# EAGLE library part MICROBUILDER_APA102 (library cube)
APA102/DotStar Pixels VCC: 5V DC Refresh Rate: 400Hz
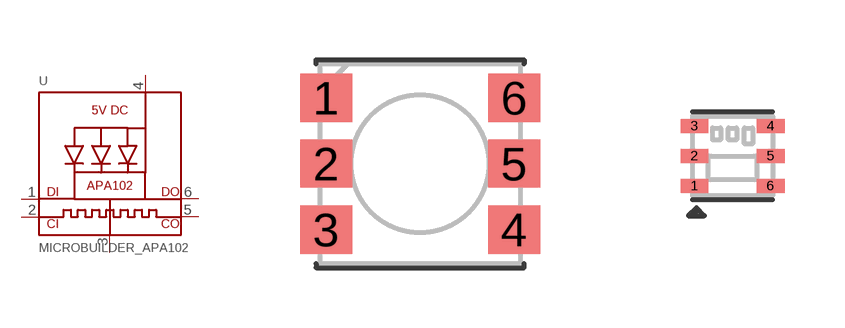
[diagram p1: symbol with the pads of MICROBUILDER_APA102; footprints MICROBUILDER_APA102, MICROBUILDER_APA102_2020]

Designator prefix -

## MICROBUILDER_APA102  [MICROBUILDER_APA102]
1  DI  in
2  CKI  in
3  GND  pwr
4  VDD  pwr
5  CKO  out
6  DO  out

## MICROBUILDER_APA1022020  [MICROBUILDER_APA102_2020]
1  DO  out
2  CKO  out
3  VDD  pwr
4  GND  pwr
5  CKI  in
6  DI  in

## Footprint MICROBUILDER_APA102 (pad centres in mm)
smd 1.3 x 1.2: 1 -2.35,1.65; 2 -2.35,0; 3 -2.35,-1.65; 4 2.35,-1.65; 5 2.35,0; 6 2.35,1.65

## Footprint MICROBUILDER_APA102_2020 (pad centres in mm)
smd 0.7 x 0.35: 1 -0.95,-0.75; 2 -0.95,0; 3 -0.95,0.75; 4 0.95,0.75; 5 0.95,0; 6 0.95,-0.75